# Altium footprint library CBPcbLib.PcbLib: 32 footprints (part 1 of 2)
Each footprint in its own frame and in the unit in brackets; x right, y up, seen from the top. Pads: shape width x height; smd on the part's side, far side on the other; paste and mask are expansions set on the pad; w line width, h text height; cw(c..) or ccw(c..) is an arc to the next point about the centre after c.
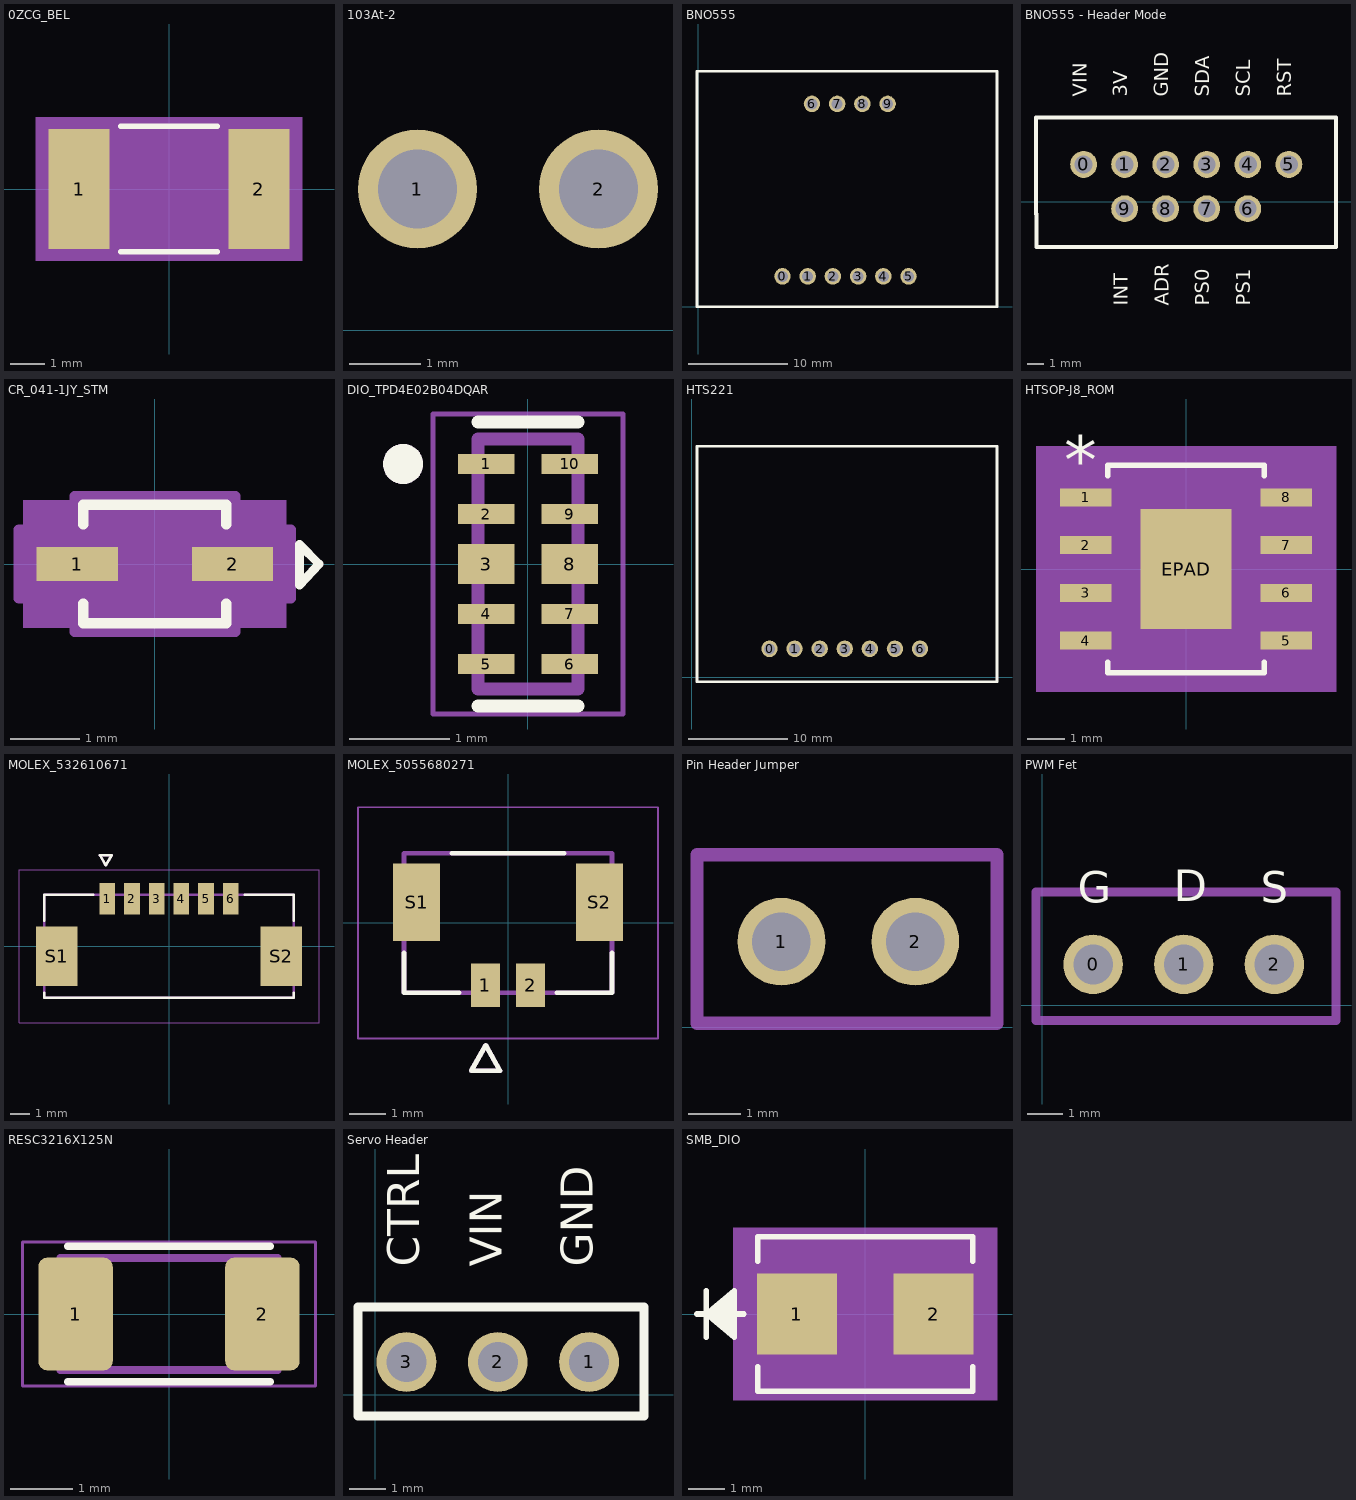
[diagram p0: the footprints below, top view; thin cyan lines are the x and y axes]

## 0ZCG_BEL [mil]
pads (2):
  rect 70x138 smd paste+0 mask+0: 1(-103,0) 2(103,0)
Top Overlay:
  lines w6: -55.25,-72 55.25,-72 ; -55.25,72 55.25,72
Mechanical 5:
  region: 153,-82 -153,-82 -153,82 153,82
Mechanical 13:
  lines w1: -93,-67 -93,67 93,67 93,-67 -93,-67
Mechanical 15:
  region: 93,-67 -93,-67 -93,67 93,67
  region: -103,-79 -148,-79 -148,79 -103,79 -103,77 103,77 103,79 148,79 148,-79 103,-79 103,-77 -103,-77
  lines w6: -148,-79 -103,-79 -103,-77 103,-77 103,-79 148,-79 148,79 103,79 103,77 -103,77 -103,79 -148,79 -148,-79
3D body "0ZCG_BEL.step": height 61.1, standoff -0.12, extent -92.99,-67.09 92.99,67.09

## 103At-2 [mm]
pads (2):
  round 1.665 hole 1.11: 1(2.108,1.978) 2(4.648,1.978)

## BNO555 [mm]
pads (10):
  round 1.665 hole 1.11: 0(8.51,3.071) 1(11.05,3.071) 2(13.59,3.071) 3(16.13,3.071) 4(18.67,3.071) 5(21.21,3.071) 6(11.481,20.447) 7(14.021,20.447) 8(16.561,20.447) 9(19.101,20.447)
Top Overlay:
  lines w0.254: -0.102,0.025 30.124,0.025 30.124,23.724 -0.102,23.724 -0.102,0.025
3D body "Adafruit_BNO055_AP214.STEP": height 5.42, standoff 1.22, extent 1.6,1.702 28.27,22.022

## BNO555 - Header Mode [mm]
pads (10):
  round 1.665 hole 1.11: 0(7.494,2.309) 1(10.034,2.309) 2(12.574,2.309) 3(15.114,2.309) 4(17.654,2.309) 5(20.194,2.309) 6(17.653,-0.432) 7(15.113,-0.432) 8(12.573,-0.432) 9(10.033,-0.432)
Top Overlay:
  lines w0.254: 4.547,-0.762 4.547,5.207 23.114,5.207 23.114,-0.762 23.114,-2.794 4.572,-2.794 4.572,-0.762
  text "VIN" at 7.982,6.504 h1.52
  text "GND" at 13.045,6.502 h1.52
  text "SDA" at 15.585,6.502 h1.52
  text "RST" at 20.665,6.502 h1.52
  text "SCL" at 18.125,6.502 h1.52
  text "3V" at 10.505,6.502 h1.52
  text "ADR" at 13.062,-6.452 h1.52
  text "PS0" at 15.585,-6.452 h1.52
  text "PS1" at 18.125,-6.452 h1.52
  text "INT" at 10.522,-6.452 h1.52

## CR_041-1JY_STM [mil]
pads (2):
  rect 46x19 smd paste+0 mask+0: 1(-44,0) 2(44,0)
Top Overlay:
  lines w5: 82,-12 93,0 82,11 82,-12
  lines w6: -40.5,-22.6 -40.5,-33.5 40.5,-33.5 40.5,-22.6 ; -40.5,22.6 -40.5,33.5 40.5,33.5 40.5,22.6
Mechanical 5:
  region: 74.5,-36 -74.5,-36 -74.5,36 74.5,36
Mechanical 13:
  lines w1: -35.5,-14.25 -21.25,-28.5 ; -35.5,14.25 -21.25,28.5 ; -53,-8.5 -53,8.5 -35.5,8.5 -35.5,-8.5 -53,-8.5 ; -35.5,-28.5 35.5,-28.5 35.5,28.5 -35.5,28.5 -35.5,-28.5 ; 35.5,-8.5 35.5,8.5 53,8.5 53,-8.5 35.5,-8.5
  text "*" at -38,-25 h50
Mechanical 15:
  region: -45.5,-19.5 -77,-19.5 -77,19.5 -45.5,19.5 -45.5,38.5 45.5,38.5 45.5,19.5 77,19.5 77,-19.5 45.5,-19.5 45.5,-38.5 -45.5,-38.5
  lines w6: -77,-19.5 -77,19.5 -45.5,19.5 -45.5,38.5 45.5,38.5 45.5,19.5 77,19.5 77,-19.5 45.5,-19.5 45.5,-38.5 -45.5,-38.5 -45.5,-19.5 -77,-19.5
3D body "CR_041-1JY_STM.step": height 46.1, standoff 0, extent -52.99,-28.5 52.99,28.5

## DIO_TPD4E02B04DQAR [mm]
pads (10):
  rect 0.565x0.2 smd mask+0: 1(-0.417,1) 2(-0.417,0.5) 4(-0.417,-0.5) 5(-0.417,-1) 6(0.417,-1) 7(0.417,-0.5) 9(0.417,0.5) 10(0.417,1)
  rect 0.565x0.4 smd paste-1 mask+0: 3(-0.417,0) 8(0.417,0)
Top Overlay:
  circle w0.2: c-1.25,1 r0.1
  lines w0.127: -0.5,-1.42 0.5,-1.42 ; -0.5,1.42 0.5,1.42
Top Paste:
  region: -0.135,-0.18 -0.7,-0.18 -0.7,0.18 -0.135,0.18
  region: 0.7,-0.18 0.135,-0.18 0.135,0.18 0.7,0.18
Top Solder:
  region: -0.065,0.83 -0.77,0.83 -0.77,1.17 -0.065,1.17
  region: -0.065,0.33 -0.77,0.33 -0.77,0.67 -0.065,0.67
  region: -0.065,-0.27 -0.77,-0.27 -0.77,0.27 -0.065,0.27
  region: -0.065,-0.67 -0.77,-0.67 -0.77,-0.33 -0.065,-0.33
  region: -0.065,-1.17 -0.77,-1.17 -0.77,-0.83 -0.065,-0.83
  region: 0.77,0.83 0.065,0.83 0.065,1.17 0.77,1.17
  region: 0.77,0.33 0.065,0.33 0.065,0.67 0.77,0.67
  region: 0.77,-0.27 0.065,-0.27 0.065,0.27 0.77,0.27
  region: 0.77,-0.67 0.065,-0.67 0.065,-0.33 0.77,-0.33
  region: 0.77,-1.17 0.065,-1.17 0.065,-0.83 0.77,-0.83
Mechanical 13:
  circle w0.2: c-1.25,1 r0.1
  lines w0.127: -0.5,-1.25 -0.5,1.25 0.5,1.25 0.5,-1.25 -0.5,-1.25
Mechanical 15:
  lines w0.05: -0.95,-1.5 0.95,-1.5 0.95,1.5 -0.95,1.5 -0.95,-1.5
3D body "step_temp.STEP": height 0.55, standoff 0, extent -0.5,-1.25 0.5,1.25

## HTS221 [mm]
pads (7):
  round 1.665 hole 1.11: 0(7.875,2.868) 1(10.415,2.868) 2(12.955,2.868) 3(15.495,2.868) 4(18.035,2.868) 5(20.575,2.868) 6(23.115,2.868)
Top Overlay:
  lines w0.254: 0.533,-0.457 30.912,-0.457 30.912,23.368 0.533,23.368 0.533,-0.457
3D body "Adafruit_BNO055_AP214.STEP": height 4.15, standoff -0.05, extent 2.108,1.194 28.778,21.514

## HTSOP-J8_ROM [mil]
pads (9):
  rect 54x19 smd paste+0 mask+0: 1(-105,75) 2(-105,25) 3(-105,-25) 4(-105,-75) 5(105,-75) 6(105,-25) 7(105,25) 8(105,75)
  rect 95x126 smd paste-62.5 mask+0: EPAD(0,0)
Top Overlay:
  lines w6: -82,-97.6 -82,-108.5 82,-108.5 82,-97.6 ; -82,97.6 -82,108.5 82,108.5 82,97.6
  text "*" at -127.5,89 h50
Top Paste:
  region: 43.56,-3.94 -43.56,-3.94 -43.56,-59.06 43.56,-59.06
  region: 43.56,59.06 -43.56,59.06 -43.56,3.94 43.56,3.94
Mechanical 5:
  region: 157,-128.5 -157,-128.5 -157,128.5 157,128.5
Mechanical 13:
  lines w0: -12,103.5 ccw(c0,103.5) 12,103.5
  lines w1: -118,-83.5 -77,-83.5 -77,-66.5 -118,-66.5 -118,-83.5 ; -118,-33.5 -77,-33.5 -77,-16.5 -118,-16.5 -118,-33.5 ; -118,16.5 -77,16.5 -77,33.5 -118,33.5 -118,16.5 ; -118,66.5 -77,66.5 -77,83.5 -118,83.5 -118,66.5 ; -77,-103.5 -77,103.5 77,103.5 77,-103.5 -77,-103.5 ; 77,-83.5 118,-83.5 118,-66.5 77,-66.5 77,-83.5 ; 77,-33.5 118,-33.5 118,-16.5 77,-16.5 77,-33.5 ; 77,16.5 118,16.5 118,33.5 77,33.5 77,16.5 ; 77,66.5 118,66.5 118,83.5 77,83.5 77,66.5
  text "*" at -74.5,50.5 h50
Mechanical 15:
  region: -87,-94.5 -142,-94.5 -142,94.5 -87,94.5 -87,113.5 87,113.5 87,94.5 142,94.5 142,-94.5 87,-94.5 87,-113.5 -87,-113.5
  lines w6: -142,-94.5 -87,-94.5 -87,-113.5 87,-113.5 87,-94.5 142,-94.5 142,94.5 87,94.5 87,113.5 -87,113.5 -87,94.5 -142,94.5 -142,-94.5
3D body "HTSOP-J8_ROM.step": height 39.09, standoff 0, extent -117.99,-103.5 117.99,103.5

## MOLEX_532610671 [mm]
height 3.4
pads (8):
  rect 0.8x1.6 smd mask+0.076: 1(-3.125,2.4) 2(-1.875,2.4) 3(-0.625,2.4) 4(0.625,2.4) 5(1.875,2.4) 6(3.125,2.4)
  rect 2.1x3 smd mask+0.076: S1(-5.675,-0.5) S2(5.675,-0.5)
Top Overlay:
  lines w0.127: -6.325,-2.35 -6.325,-2.6 6.325,-2.6 6.325,-2.35 ; -6.325,1.3 -6.325,2.6 -3.845,2.6 ; 3.845,2.6 6.325,2.6 6.325,1.3 ; -3.5,4.605 -3.2,4.105 -2.9,4.605 -3.5,4.605
Mechanical 13:
  lines w0.127: -6.325,-2.6 -6.325,2.6 6.325,2.6 6.325,-2.6 -6.325,-2.6 ; -3.5,4.605 -3.2,4.105 -2.9,4.605 -3.5,4.605
Mechanical 15:
  lines w0.05: -7.595,-3.87 -7.595,3.87 7.595,3.87 7.595,-3.87 -7.595,-3.87
3D body "532610671.stp": height 3.2, standoff -0.2, extent -6.325,-2.581 6.325,2.619

## MOLEX_5055680271 [mm]
height 4.2
pads (4):
  rect 0.8x1.2 smd mask+0.076: 1(-0.625,-1.725) 2(0.625,-1.725)
  rect 1.3x2.15 smd mask+0.076: S1(-2.525,0.57) S2(2.525,0.57)
Top Overlay:
  lines w0.127: -2.875,-0.825 -2.875,-1.925 -1.345,-1.925 ; -1.555,1.925 1.555,1.925 ; 1.345,-1.925 2.875,-1.925 2.875,-0.825 ; -1.015,-4.085 -0.615,-3.385 -0.215,-4.085 -1.015,-4.085
Mechanical 13:
  lines w0.127: -2.875,-1.925 -2.875,1.925 2.875,1.925 2.875,-1.925 -2.875,-1.925 ; -1.015,-4.085 -0.615,-3.385 -0.215,-4.085 -1.015,-4.085
Mechanical 15:
  lines w0.05: -4.145,-3.195 4.145,-3.195 4.145,3.195 -4.145,3.195 -4.145,-3.195
3D body "5055680271--3DModel-STEP-361473.STEP": height 3.88, standoff -0.03, extent -2.804,-2.125 2.946,2.075

## PCBComponent_1 [mil]

## Pin Header Jumper [mm]
pads (2):
  round 1.665 hole 1.11: 1(1.956,1.626) 2(4.496,1.626)
Mechanical 1:
  lines w0.254: 0.356,0.076 6.045,0.076 6.045,3.277 0.356,3.277 0.356,0.076

## PWM Fet [mm]
pads (3):
  round 1.665 hole 1.11: 0(1.424,1.141) 1(3.964,1.141) 2(6.504,1.141)
Top Overlay:
  text "S" at 6.121,2.582 h1.52
  text "D" at 3.683,2.616 h1.52
  text "G" at 0.991,2.582 h1.52
Mechanical 1:
  lines w0.254: -0.178,-0.432 8.23,-0.432 8.23,3.175 -0.178,3.175 -0.178,-0.432

## RESC3216X125N [mm]
pads (2):
  rrect25% 1.2x1.82 smd: 1(-1.505,0) 2(1.505,0)
Top Overlay:
  lines w0.127: -1.63,-1.09 1.63,-1.09 ; -1.63,1.09 1.63,1.09
Mechanical 13:
  lines w0.127: -1.75,-0.9 1.75,-0.9 1.75,0.9 -1.75,0.9 -1.75,-0.9
Mechanical 15:
  lines w0.05: -2.36,-1.16 2.36,-1.16 2.36,1.16 -2.36,1.16 -2.36,-1.16

## Servo Header [mm]
pads (3):
  round 1.665 hole 1.11: 1(5.944,0.914) 2(3.404,0.914) 3(0.864,0.914)
Top Overlay:
  lines w0.254: -0.483,-0.584 7.468,-0.584 7.468,2.438 -0.483,2.438 -0.483,-0.584
  text "GND" at 6.333,3.556 h1.52
  text "VIN" at 3.81,3.557 h1.52
  text "CTRL" at 1.507,3.556 h1.52

## SMB_DIO [mm]
pads (2):
  rect 2.18x2.21 smd paste+0 mask+0: 1(-1.857,0) 2(1.857,0)
Top Overlay:
  lines w0.152: -4.573,0 -3.303,0 ; -4.319,-0.635 -4.319,0.635 ; -3.557,-0.508 -4.319,0 ; -3.557,-0.381 -4.319,0 ; -3.557,-0.254 -4.319,0 ; -3.557,-0.127 -4.319,0 ; -3.557,0.127 -4.319,0 ; -3.557,0.254 -4.319,0 ; -3.557,0.381 -4.319,0 ; -3.557,0.508 -4.319,0 ; -2.922,-1.438 -2.922,-2.097 2.922,-2.097 2.922,-1.438 ; -2.922,1.438 -2.922,2.097 2.922,2.097 2.922,1.438 ; -4.319,0 -3.557,0.635 -3.557,-0.635 -4.319,0
Mechanical 5:
  region: 3.582,-2.351 -3.582,-2.351 -3.582,2.351 3.582,2.351
Mechanical 13:
  lines w0.025: -4.573,0 -3.303,0 ; -4.319,-0.635 -4.319,0.635 ; -3.557,-0.508 -4.319,0 ; -3.557,-0.381 -4.319,0 ; -3.557,-0.254 -4.319,0 ; -3.557,-0.127 -4.319,0 ; -3.557,0.127 -4.319,0 ; -3.557,0.254 -4.319,0 ; -3.557,0.381 -4.319,0 ; -3.557,0.508 -4.319,0 ; -4.319,0 -3.557,0.635 -3.557,-0.635 -4.319,0 ; -2.795,-1.97 2.795,-1.97 2.795,1.97 -2.795,1.97 -2.795,-1.97
Mechanical 15:
  region: -3.049,-1.359 -3.201,-1.359 -3.201,1.359 -3.049,1.359 -3.049,2.224 3.049,2.224 3.049,1.359 3.201,1.359 3.201,-1.359 3.049,-1.359 3.049,-2.224 -3.049,-2.224
  lines w0.152: -3.201,-1.359 -3.201,1.359 -3.049,1.359 -3.049,2.224 3.049,2.224 3.049,1.359 3.201,1.359 3.201,-1.359 3.049,-1.359 3.049,-2.224 -3.049,-2.224 -3.049,-1.359 -3.201,-1.359
3D body "SMB_DIO.step": height 2.45, standoff 0, extent -2.795,-1.97 2.795,1.97